# EAGLE library part 64901429522 (library Wire_to_Board_Connectors_rev15d)
WR-MPC4-4.20mm Male Dual Row Angled Header,14 pins=>Code : WR-MPC4_Stiftbuchse_2reihig_abgewinkelt_64901429522 <http://katalog.we-online.de/media/thumbs2/eican/thb_WR-MPC4_Stiftbuchse_2reihig_abgewinkelt_64901029522.jpg> Details see: http://katalog.we-online.de/en/em/649_0xx_295_22 Created 2014-06-06, Karrer Zheng 2014 (C) Würth Elektronik
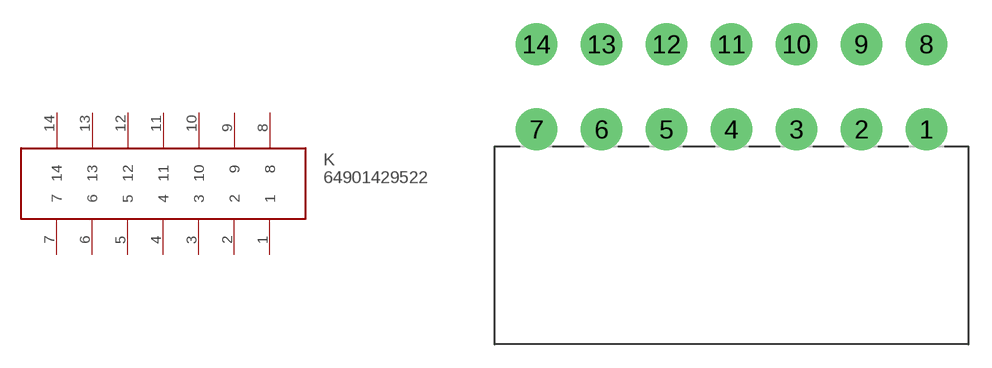
[diagram p299: symbol with the pads of 64901429522; footprint 64901429522]

Designator prefix K

## 64901429522  [64901429522]
1  1
2  2
3  3
4  4
5  5
6  6
7  7
8  8
9  9
10  10
11  11
12  12
13  13
14  14

## Footprint 64901429522 (pad centres in mm)
WR-MPC4-4.20mm Male Dual Row Angled Header,14 pins
drill 1.8: 1 12.6,-2.75; 2 8.4,-2.75; 3 4.2,-2.75; 4 0,-2.75; 5 -4.2,-2.75; 6 -8.4,-2.75; 7 -12.6,-2.75; 8 12.6,2.75; 9 8.4,2.75; 10 4.2,2.75; 11 0,2.75; 12 -4.2,2.75; 13 -8.4,2.75; 14 -12.6,2.75